# EAGLE library part 6123XX20621_61234020621 (library Eagle_WR-BHD (rev21a))
2.54 mm Male SMT Box Header (Reel) KIND PROPERTIES: Pitch 2.54 mm Gender:Male MATERIAL PROPERTIES: Insulator Material:PA6T Insulator Flammability Rating UL94 V-0 Insulator Color:Black Contact Material :Copper Alloy Contact Plating :Gold Contact Type: Stamped GENERAL INFORMATION: Operating Temperature:-40 °C up to +125 °C Compliance:RoHS Working Voltage: 250 V (AC) Withstanding Voltage:500 V (AC) Contact Resistance: 20 mΩ Insulation Resistance:1000 MΩ CERTIFICATION UL Approval:E323964 PACKAGING PROPERTIES Packaging :Tape and Reel with Cap <https://www.we-online.de/katalog/media/o32919v209%20Family_WR-BHD_612xxx20621.jpg> Details see: https://www.we-online.de/katalog/en/BHD_2_54_SMT_MALE_BOX_HEADER_6120XX20621 Updated by Yingchun,Shan 2019-10-30 2019 (C) Würth Elektronik
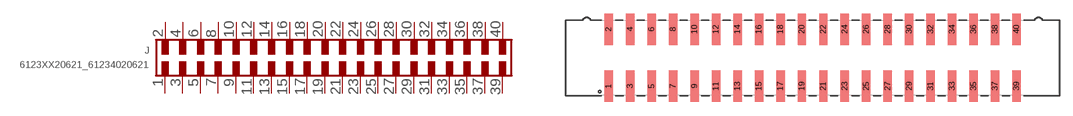
[diagram p143: symbol with the pads of 61234020621; footprint 61234020621]

Designator prefix J

## 6123XX20621_61234020621 (CONTACT-RESISTANCE: 20mOhm; DATASHEET-URL: https://www.we-online.com/catalog/datasheet/61234020621.pdf; GENDER: Male; IR: 3A; L: 58.6mm; MOUNT: SMT; PACKAGING: Tape and Reel with Cap; PART-NUMBER: 61234020621; PINS: 40; PITCH: 2.54mm; TYPE: Straight; VALUE: 61234020621; WORKING-VOLTAGE: 250V(AC))  [61234020621]
1  1  pas
2  2  pas
3  3  pas
4  4  pas
5  5  pas
6  6  pas
7  7  pas
8  8  pas
9  9  pas
10  10  pas
11  11  pas
12  12  pas
13  13  pas
14  14  pas
15  15  pas
16  16  pas
17  17  pas
18  18  pas
19  19  pas
20  20  pas
21  21  pas
22  22  pas
23  23  pas
24  24  pas
25  25  pas
26  26  pas
27  27  pas
28  28  pas
29  29  pas
30  30  pas
31  31  pas
32  32  pas
33  33  pas
34  34  pas
35  35  pas
36  36  pas
37  37  pas
38  38  pas
39  39  pas
40  40  pas

## Footprint 61234020621 (pad centres in mm)
WR-BHD 2.54 mm Male SMT Box Header (Reel),40Pins
smd 1 x 3.75: 1 -24.13,-3.375; 2 -24.13,3.375; 3 -21.59,-3.375; 4 -21.59,3.375; 5 -19.05,-3.375; 6 -19.05,3.375; 7 -16.51,-3.375; 8 -16.51,3.375; 9 -13.97,-3.375; 10 -13.97,3.375; 11 -11.43,-3.375; 12 -11.43,3.375; 13 -8.89,-3.375; 14 -8.89,3.375; 15 -6.35,-3.375; 16 -6.35,3.375; 17 -3.81,-3.375; 18 -3.81,3.375; 19 -1.27,-3.375; 20 -1.27,3.375; 21 1.27,-3.375; 22 1.27,3.375; 23 3.81,-3.375; 24 3.81,3.375; 25 6.35,-3.375; 26 6.35,3.375; 27 8.89,-3.375; 28 8.89,3.375; 29 11.43,-3.375; 30 11.43,3.375; 31 13.97,-3.375; 32 13.97,3.375; 33 16.51,-3.375; 34 16.51,3.375; 35 19.05,-3.375; 36 19.05,3.375; 37 21.59,-3.375; 38 21.59,3.375; 39 24.13,-3.375; 40 24.13,3.375